# EAGLE library part TUSB2046B (library texas)
4-PORT USB HUB WITH OPTIONAL SERIAL EEPROM INTERFACE
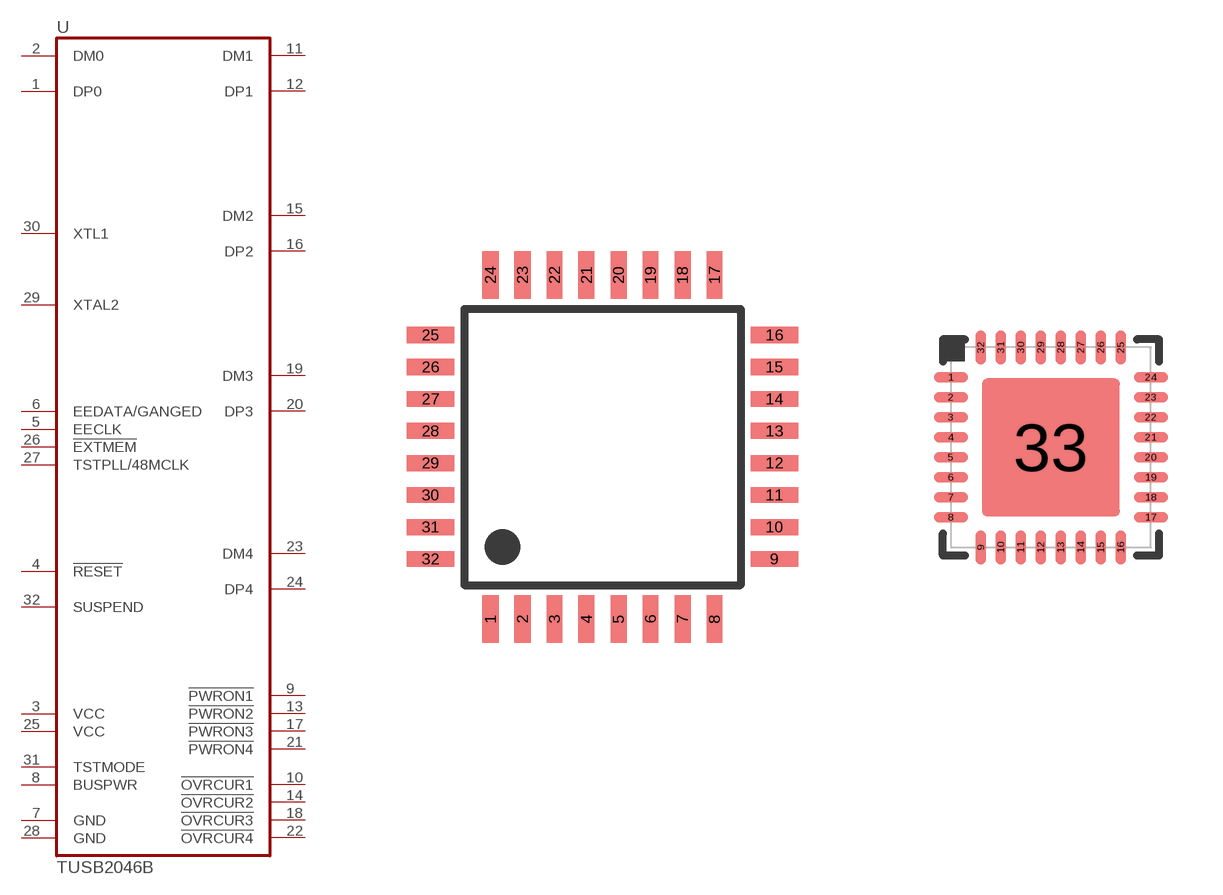
[diagram p85: symbol with the pads of LQFP-7X7-32; footprints LQFP-7X7-32, VQFN32]

Designator prefix U

## TUSB2046BVF  [LQFP-7X7-32]
1  DP0
2  DM0
3  VCC  pwr
4  !RESET!  in
5  EECLK  out
6  EEDATA/GANGED
7  GND  pwr
8  BUSPWR  in
9  !PWRON1!  oc
10  !OVRCUR1!  in
11  DM1
12  DP1
13  !PWRON2!  oc
14  !OVRCUR2!  in
15  DM2
16  DP2
17  !PWRON3!  oc
18  !OVRCUR3!  in
19  DM3
20  DP3
21  !PWRON4!  oc
22  !OVRCUR4!  in
23  DM4
24  DP4
25  VCC  pwr
26  !EXTMEM!  in
27  TSTPLL/48MCLK
28  GND  pwr
29  XTAL2  out
30  XTL1  in
31  TSTMODE  in
32  SUSPEND  out

## TUSB2046BRHB  [VQFN32]
Pads as for LQFP-7X7-32

## Footprint LQFP-7X7-32 (pad centres in mm)
LQFP-32 package 7x7 mm case, 0.8 mm lead pitch
smd 0.4 x 1.2: 1 -2.8,-4.3; 2 -2,-4.3; 3 -1.2,-4.3; 4 -0.4,-4.3; 5 0.4,-4.3; 6 1.2,-4.3; 7 2,-4.3; 8 2.8,-4.3; 17 2.8,4.3; 18 2,4.3; 19 1.2,4.3; 20 0.4,4.3; 21 -0.4,4.3; 22 -1.2,4.3; 23 -2,4.3; 24 -2.8,4.3
smd 1.2 x 0.4: 9 4.3,-2.8; 10 4.3,-2; 11 4.3,-1.2; 12 4.3,-0.4; 13 4.3,0.4; 14 4.3,1.2; 15 4.3,2; 16 4.3,2.8; 25 -4.3,2.8; 26 -4.3,2; 27 -4.3,1.2; 28 -4.3,0.4; 29 -4.3,-0.4; 30 -4.3,-1.2; 31 -4.3,-2; 32 -4.3,-2.8

## Footprint VQFN32 (pad centres in mm)
VQFN32 Quad Flat Package, 0.50 mm Pitch
smd 0.85 x 0.26: 1 -2.5,1.75; 2 -2.5,1.25; 3 -2.5,0.75; 4 -2.5,0.25; 5 -2.5,-0.25; 6 -2.5,-0.75; 7 -2.5,-1.25; 8 -2.5,-1.75; 17 2.5,-1.75; 18 2.5,-1.25; 19 2.5,-0.75; 20 2.5,-0.25; 21 2.5,0.25; 22 2.5,0.75; 23 2.5,1.25; 24 2.5,1.75
smd 0.26 x 0.85: 9 -1.75,-2.5; 10 -1.25,-2.5; 11 -0.75,-2.5; 12 -0.25,-2.5; 13 0.25,-2.5; 14 0.75,-2.5; 15 1.25,-2.5; 16 1.75,-2.5; 25 1.75,2.5; 26 1.25,2.5; 27 0.75,2.5; 28 0.25,2.5; 29 -0.25,2.5; 30 -0.75,2.5; 31 -1.25,2.5; 32 -1.75,2.5
smd 3.45 x 3.45: 33 0,0